# Altium schematic symbol library 2896241.SchLib: 1 symbol
Pins are listed as number, name and electrical type; pins without a type are passive.

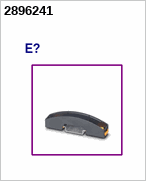
[diagram p0: symbol 2896241]

## 2896241
designator E?  (value not drawn)